# EAGLE library part SOCKET7 (library wheat)
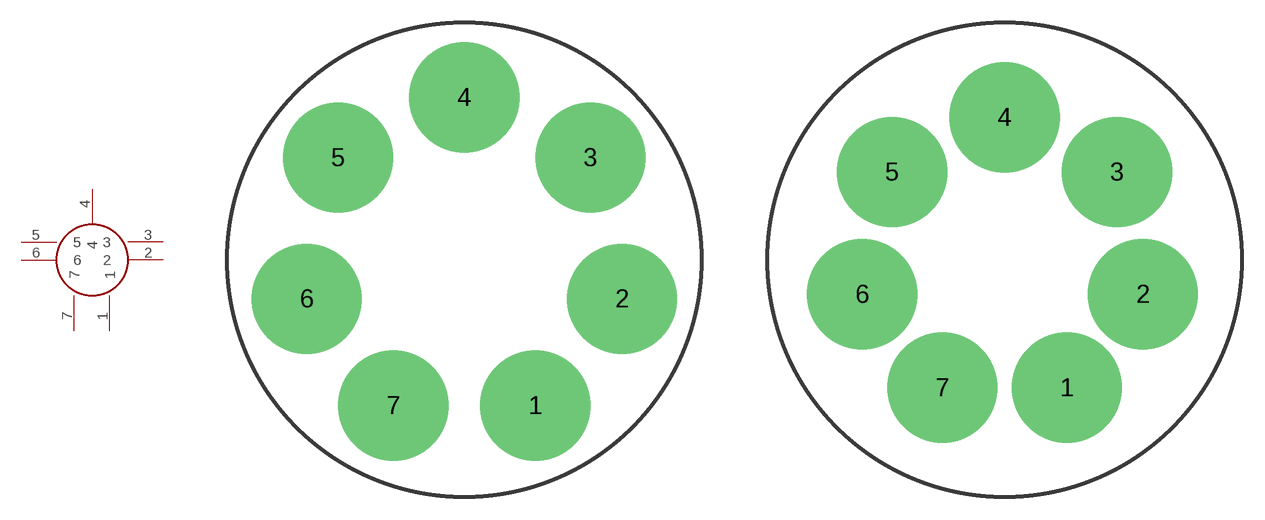
[diagram p287: symbol with the pads of SOCKET7L; footprints SOCKET7L, SOCKET7S]

Designator prefix -

## SOCKET7L  [SOCKET7L]
1  1
2  2
3  3
4  4
5  5
6  6
7  7

## SOCKET7S  [SOCKET7S]
Pads as for SOCKET7L

## Footprint SOCKET7L (pad centres in mm)
drill 5.232 pad 7.366: 1 4.75,-9.754; 2 10.541,-2.616; 3 8.433,6.833; 4 0,10.858; 5 -8.433,6.833; 6 -10.541,-2.616; 7 -4.75,-9.754

## Footprint SOCKET7S (pad centres in mm)
drill 5.232 pad 7.366: 1 4.166,-8.56; 2 9.246,-2.311; 3 7.518,5.867; 4 0,9.525; 5 -7.518,5.867; 6 -9.525,-2.311; 7 -4.166,-8.56